# EAGLE library part LUCKFOX_CORE3506 (library Luckfox_Core3506)
Módulo SOM compacto de 32 mm × 32 mm basado en el chip Rockchip RK3506B. Incluye procesador de cuatro núcleos (3× Cortex-A7 + 1× Cortex-M0), 512 MB de RAM DDR3L externa y almacenamiento eMMC de 8 GB. Ofrece 120 pines tipo stamp hole con múltiples interfaces (SPI, I2C, UART, USB, GPIO, SDIO), ideal para sistemas embebidos de bajo consumo. Compatible con expansión externa vía USB y adaptable a proyectos personalizados como lectores E-Ink, interfaces gráficas simples o dispositivos portátiles. Requiere placa base para su funcionamiento. No incluye WiFi integrado, pero puede añadirse mediante dongle USB o usando la versión Lyra W.
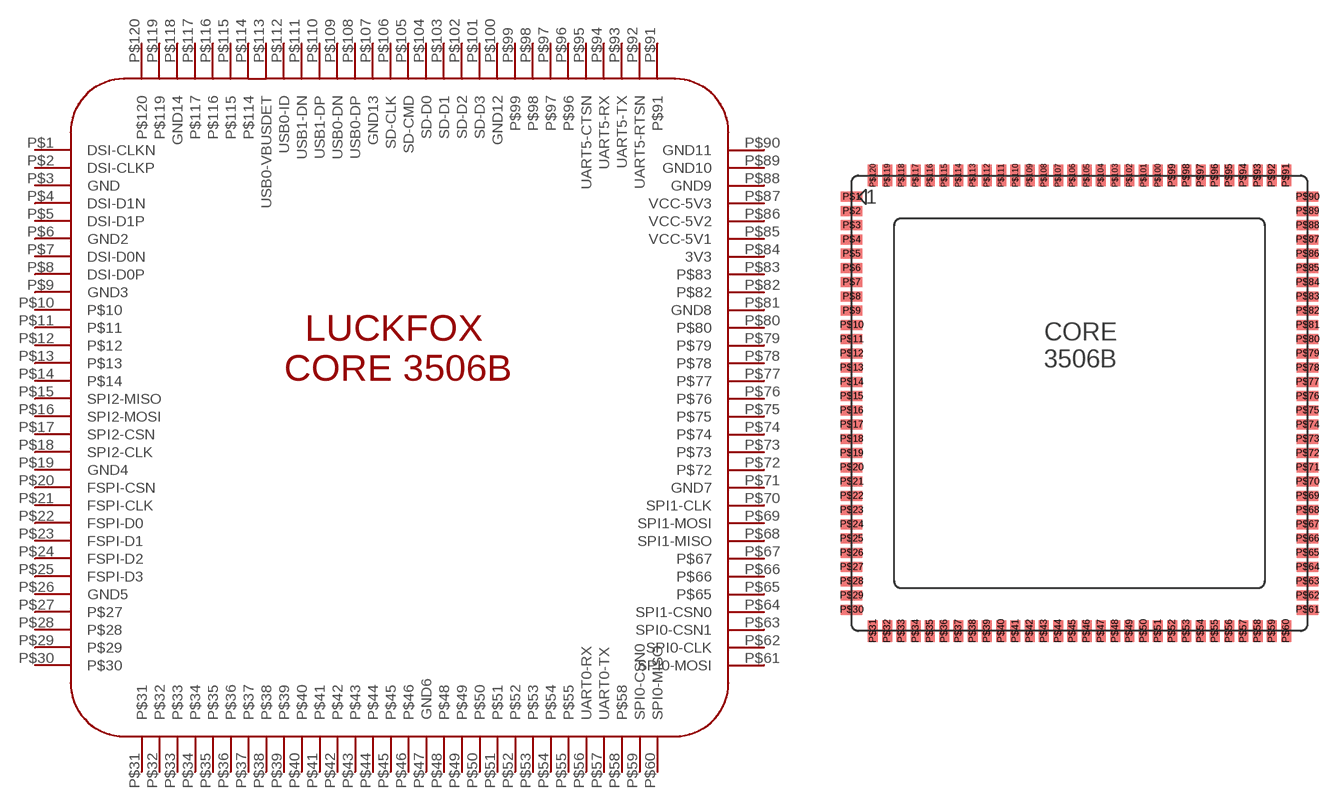
[diagram p0: symbol with the pads of CORE3506; footprint CORE3506]

Designator prefix -

## LUCKFOX_CORE3506  [CORE3506]
P$1  DSI-CLKN  out
P$2  DSI-CLKP
P$3  GND
P$4  DSI-D1N
P$5  DSI-D1P
P$6  GND2
P$7  DSI-D0N
P$8  DSI-D0P
P$9  GND3
P$10  P$10
P$11  P$11
P$12  P$12
P$13  P$13
P$14  P$14
P$15  SPI2-MISO
P$16  SPI2-MOSI
P$17  SPI2-CSN
P$18  SPI2-CLK
P$19  GND4
P$20  FSPI-CSN
P$21  FSPI-CLK
P$22  FSPI-D0
P$23  FSPI-D1
P$24  FSPI-D2
P$25  FSPI-D3
P$26  GND5
P$27  P$27
P$28  P$28
P$29  P$29
P$30  P$30
P$31  P$31
P$32  P$32
P$33  P$33
P$34  P$34
P$35  P$35
P$36  P$36
P$37  P$37
P$38  P$38
P$39  P$39
P$40  P$40
P$41  P$41
P$42  P$42
P$43  P$43
P$44  P$44
P$45  P$45
P$46  P$46
P$47  GND6
P$48  P$48
P$49  P$49
P$50  P$50
P$51  P$51
P$52  P$52
P$53  P$53
P$54  P$54
P$55  P$55
P$56  UART0-RX
P$57  UART0-TX
P$58  P$58
P$59  SPI0-CSN0
P$60  SPI0-MISO
P$61  SPI0-MOSI
P$62  SPI0-CLK
P$63  SPI0-CSN1
P$64  SPI1-CSN0
P$65  P$65
P$66  P$66
P$67  P$67
P$68  SPI1-MISO
P$69  SPI1-MOSI
P$70  SPI1-CLK
P$71  GND7
P$72  P$72
P$73  P$73
P$74  P$74
P$75  P$75
P$76  P$76
P$77  P$77
P$78  P$78
P$79  P$79
P$80  P$80
P$81  GND8
P$82  P$82
P$83  P$83
P$84  3V3
P$85  VCC-5V1
P$86  VCC-5V2
P$87  VCC-5V3
P$88  GND9
P$89  GND10
P$90  GND11
P$91  P$91
P$92  UART5-RTSN
P$93  UART5-TX
P$94  UART5-RX
P$95  UART5-CTSN
P$96  P$96
P$97  P$97
P$98  P$98
P$99  P$99
P$100  GND12
P$101  SD-D3
P$102  SD-D2
P$103  SD-D1
P$104  SD-D0
P$105  SD-CMD
P$106  SD-CLK
P$107  GND13
P$108  USB0-DP
P$109  USB0-DN
P$110  USB1-DP
P$111  USB1-DN
P$112  USB0-ID
P$113  USB0-VBUSDET
P$114  P$114
P$115  P$115
P$116  P$116
P$117  P$117
P$118  GND14
P$119  P$119
P$120  P$120

## Footprint CORE3506 (pad centres in mm)
smd 1.5 x 0.7: P$1 -16,14.5; P$2 -16,13.5; P$3 -16,12.5; P$4 -16,11.5; P$5 -16,10.5; P$6 -16,9.5; P$7 -16,8.5; P$8 -16,7.5; P$9 -16,6.5; P$10 -16,5.5; P$11 -16,4.5; P$12 -16,3.5; P$13 -16,2.5; P$14 -16,1.5; P$15 -16,0.5; P$16 -16,-0.5; P$17 -16,-1.5; P$18 -16,-2.5; P$19 -16,-3.5; P$20 -16,-4.5; P$21 -16,-5.5; P$22 -16,-6.5; P$23 -16,-7.5; P$24 -16,-8.5; P$25 -16,-9.5; P$26 -16,-10.5; P$27 -16,-11.5; P$28 -16,-12.5; P$29 -16,-13.5; P$30 -16,-14.5; P$61 16,-14.5; P$62 16,-13.5; P$63 16,-12.5; P$64 16,-11.5; P$65 16,-10.5; P$66 16,-9.5; P$67 16,-8.5; P$68 16,-7.5; P$69 16,-6.5; P$70 16,-5.5; P$71 16,-4.5; P$72 16,-3.5; P$73 16,-2.5; P$74 16,-1.5; P$75 16,-0.5; P$76 16,0.5; P$77 16,1.5; P$78 16,2.5; P$79 16,3.5; P$80 16,4.5; P$81 16,5.5; P$82 16,6.5; P$83 16,7.5; P$84 16,8.5; P$85 16,9.5; P$86 16,10.5; P$87 16,11.5; P$88 16,12.5; P$89 16,13.5; P$90 16,14.5
smd 0.7 x 1.5: P$31 -14.5,-16; P$32 -13.5,-16; P$33 -12.5,-16; P$34 -11.5,-16; P$35 -10.5,-16; P$36 -9.5,-16; P$37 -8.5,-16; P$38 -7.5,-16; P$39 -6.5,-16; P$40 -5.5,-16; P$41 -4.5,-16; P$42 -3.5,-16; P$43 -2.5,-16; P$44 -1.5,-16; P$45 -0.5,-16; P$46 0.5,-16; P$47 1.5,-16; P$48 2.5,-16; P$49 3.5,-16; P$50 4.5,-16; P$51 5.5,-16; P$52 6.5,-16; P$53 7.5,-16; P$54 8.5,-16; P$55 9.5,-16; P$56 10.5,-16; P$57 11.5,-16; P$58 12.5,-16; P$59 13.5,-16; P$60 14.5,-16; P$91 14.5,16; P$92 13.5,16; P$93 12.5,16; P$94 11.5,16; P$95 10.5,16; P$96 9.5,16; P$97 8.5,16; P$98 7.5,16; P$99 6.5,16; P$100 5.5,16; P$101 4.5,16; P$102 3.5,16; P$103 2.5,16; P$104 1.5,16; P$105 0.5,16; P$106 -0.5,16; P$107 -1.5,16; P$108 -2.5,16; P$109 -3.5,16; P$110 -4.5,16; P$111 -5.5,16; P$112 -6.5,16; P$113 -7.5,16; P$114 -8.5,16; P$115 -9.5,16; P$116 -10.5,16; P$117 -11.5,16; P$118 -12.5,16; P$119 -13.5,16; P$120 -14.5,16